# EAGLE library part 74AUP1T57 (library nxp_60_1_1)
Low-power configurable gate with voltage-level translator The 74AUP1T57 provides low-power, low-voltage configurable logic gate functions. The output state is determined by eight patterns of 3-bit input. The user can choose the logic functions AND, OR, NAND, NOR, XNOR, inverter and buffer. All inputs can be connected to VCC or GND. This device ensures a very low static and dynamic power consumption across the entire VCC range from 2.3 V to 3.6 V. The 74AUP1T57 is designed for logic-level translation applications with input switching levels that accept 1.8 V low-voltage CMOS signals, while operating from either a single 2.5 V or 3.3 V supply voltage. The wide supply voltage range ensures normal operation as battery voltage drops from 3.6 V to 2.3 V. This device is fully specified for partial power-down applications using IOFF. The IOFF circuitry disables the output, preventing the damaging backflow current through the device when it is powered down. Schmitt trigger inputs make the circuit tolerant to slower input rise and fall times across the entire VCC range. AAL Eindhoven MK
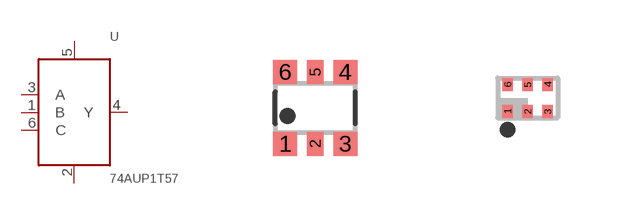
[diagram p25: symbol with the pads of SOT363; footprints SOT363, SOT886]

Designator prefix U

## 74AUP1T57GW (12NC: 9352 804 64125)  [SOT363]
1  B  in
2  GND  pwr
3  A  in
4  Y  out
5  VCC  pwr
6  C  in

## 74AUP1T57GM (12NC: 9352 804 65115)  [SOT886]
Pads as for SOT363

## 74AUP1T57GF (12NC: 9352 813 64132)  [SOT891]
Pads as for SOT363

## 74AUP1T57GS (12NC: 9352 928 78132)  [SOT1202]
Pads as for SOT363

## 74AUP1T57GN (I2C: 9352 917 54132)  [SOT1115]
Pads as for SOT363

## Footprint SOT363 (pad centres in mm)
SOT363 Plastic surface-mounted package; 6 leads JEDEC: -- IEC: -- JEITA: SC-88
smd 0.6 x 0.6: 1 -0.75,-0.9; 3 0.75,-0.9; 4 0.75,0.9; 6 -0.75,0.9
smd 0.4 x 0.6: 2 0,-0.9; 5 0,0.9

## Footprint SOT886 (pad centres in mm)
SOT886 XSON6: plastic extremely thin small outline package; no leads; 6 terminals; body 1 x 1.45 x 0.5 mm JEDEC: MO-252 IEC: ---
smd 0.27 x 0.325: 1 -0.5,-0.338; 2 0,-0.338; 3 0.5,-0.338; 4 0.5,0.338; 5 0,0.338; 6 -0.5,0.338

## Footprint SOT891 (pad centres in mm)
SOT891 XSON6: plastic extremely thin small outline package; no leads; 6 terminals; body 1 x 1 x 0.5 mm JEDEC: -- IEC: ---
smd 0.15 x 0.5: 1 -0.35,-0.35; 2 0,-0.35; 3 0.35,-0.35; 4 0.35,0.35; 5 0,0.35; 6 -0.35,0.35

## Footprint SOT1202 (pad centres in mm)
SOT1202 XSON6: extremely thin small outline package; no leads; 6 terminals; body 1.0 x 1.0 x 0.35 mm JEDEC: --- IEC: ---
smd 0.15 x 0.5: 1 -0.35,-0.35; 2 0,-0.35; 3 0.35,-0.35; 4 0.35,0.35; 5 0,0.35; 6 -0.35,0.35

## Footprint SOT1115 (pad centres in mm)
!!!!!!Experimental, not tested!!!!!!!!!!!! MK SOT1115 XSON6: extremely thin small outline package; no leads; 6 terminals; body 0.9 x 1.0 x 0.35 mm JEDEC: -- IEC: -- JEITA: --
smd 0.22 x 0.325: 1 -0.3,-0.312; 2 0,-0.312; 3 0.3,-0.312; 4 0.3,0.312; 5 0,0.312; 6 -0.3,0.312